# Altium schematic symbol library LinearRegulator78XX.SchLib: 1 symbol
Pins are listed as number, name and electrical type; pins without a type are passive.

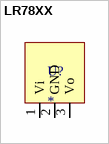
[diagram p0: symbol LR78XX]

## LR78XX
designator U?
Linear Regulator 78XX; Digi-Key Part Number: 497-1203-1-ND
footprint LR78XX (SMD)
footprint SOT223
pins: 1 Vi, 2 GND, 3 Vo